# Altium schematic symbol library Semiconductors.SchLib: 16 symbols
Pins are listed as number, name and electrical type; pins without a type are passive.

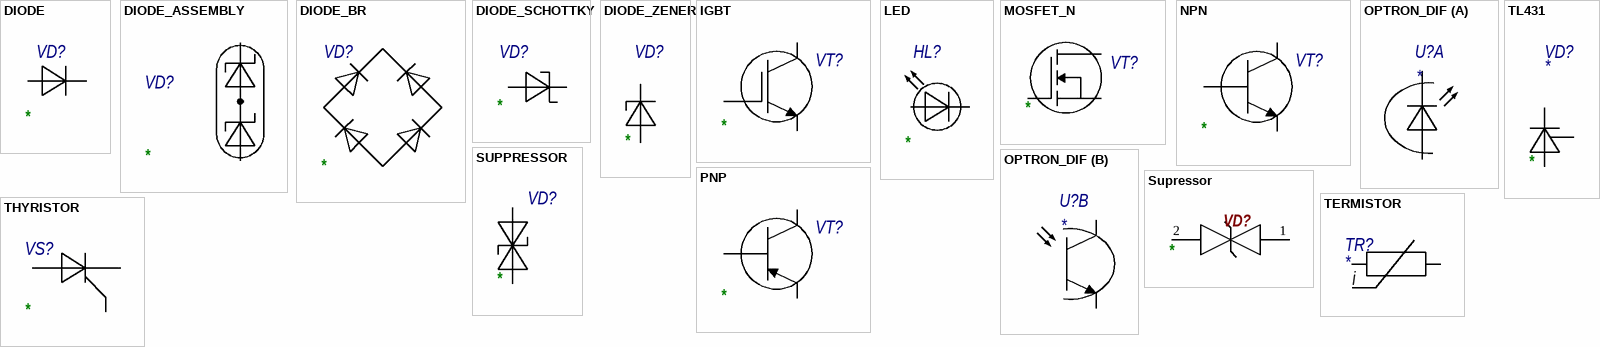
[diagram p0: symbols DIODE to TL431]

## DIODE
designator VD?
ValueDescription: *; ValueManufacturer: *; ValueType: *; Value: *; ValueManufacturerPartNumber: *
pins: A, K

## DIODE_ASSEMBLY
designator VD?
Value: *; ValueDescription: *; ValueManufacturer: *; ValueType: *; ValueManufacturerPartNumber: *
pins: A, AC, K

## DIODE_BR
designator VD?
ValueDescription: *; ValueManufacturer: *; ValueType: *; Value: *; ValueManufacturerPartNumber: *
pins: + (power), - (power), AC1 (power), AC2 (power)

## DIODE_SCHOTTKY
designator VD?
ValueDescription: *; ValueManufacturer: *; ValueType: *; Value: *; ValueManufacturerPartNumber: *
pins: A, K

## DIODE_ZENER
designator VD?
ValueDescription: *; ValueManufacturer: *; ValueType: *; Value: *; ValueManufacturerPartNumber: *
pins: A, K

## IGBT
designator VT?  (value not drawn)
ValueDescription: *; ValueManufacturer: *; ValueManufacturerPartNumber: *; ValueType: *; Value: *
pins: C, E, G

## LED
designator HL?
ValueDescription: *; ValueManufacturer: *; ValueType: *; Value: *; ValueManufacturerPartNumber: *
pins: A, K

## MOSFET_N
designator VT?
ValueDescription: *; ValueManufacturer: *; ValueType: *; Value: *; ValueManufacturerPartNumber: *
pins: D, G, S

## NPN
designator VT?  (value not drawn)
ValueDescription: *; ValueManufacturer: *; ValueType: *; Value: *; ValueManufacturerPartNumber: *
pins: B, C, E

## OPTRON_DIF
designator U?
part A pins: A, K
part B pins: C, E

## PNP
designator VT?  (value not drawn)
ValueDescription: *; ValueManufacturer: *; ValueType: *; Value: *; ValueManufacturerPartNumber: *
pins: B, C, E

## SUPPRESSOR
designator VD?
ValueDescription: *; ValueManufacturer: *; ValueManufacturerPartNumber: *; ValueType: *; Value: *
pins: 1, 2

## Supressor
designator VD?
Супрессор; Value: *; ValueDescription: *; ValueManufacturer: *; ValueType: *; ValueManufacturerPartNumber: *
pins: 1 Cathode, 2 Anode

## TERMISTOR
designator TR?
pins: 1, 2
text: i

## THYRISTOR
designator VS?
ValueDescription: *; ValueManufacturer: *; ValueType: *; Value: *; ValueManufacturerPartNumber: *
pins: A, G, K

## TL431
designator VD?
ValueDescription: *; ValueManufacturer: *; ValueManufacturerPartNumber: *; ValueType: *; Value: *
pins: A, G (power), K